# EAGLE library part CC430F5137 (library OSSIdonghee)
TI.com CC430F5137 (MSP430 + CC1101 Transceiver)
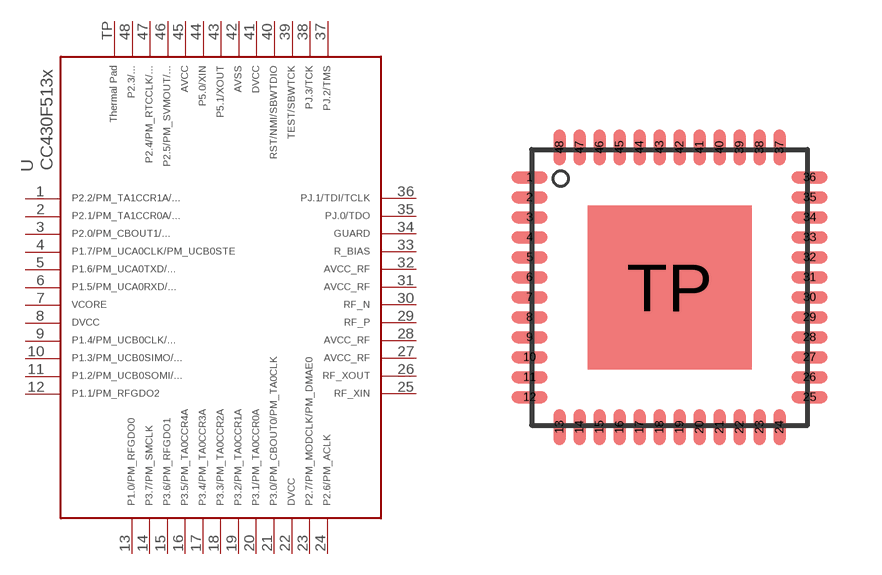
[diagram p0: symbol with the pads of RGZ48; footprint RGZ48]

Designator prefix U

## CC430F5137  [RGZ48]
1  P$1
2  P$2
3  P$3
4  P$4
5  P$5
6  P$6
7  P$7  pwr
8  P$8  pwr
9  P$9
10  P$10
11  P$11
12  P$12
13  P$13
14  P$14
15  P$15
16  P$16
17  P$17
18  P$18
19  P$19
20  P$20
21  P$21
22  P$22  pwr
23  P$23
24  P$24
25  P$25  in
26  P$26  out
27  P$27  pwr
28  P$28
29  P$29
30  P$30
31  P$31  pwr
32  P$32  pwr
33  P$33  pwr
34  P$34  pwr
35  P$35
36  P$36
37  P$37
38  P$38
39  P$39  in
40  P$40
41  P$41  pwr
42  P$42  pwr
43  P$43  in
44  P$44  in
45  P$45  in
46  P$46
47  P$47  in
48  P$48
TP  P$49  pwr

## Footprint RGZ48 (pad centres in mm)
Texax Instrument RGZ48 package esp. for CC430F5137
smd 0.9 x 0.3: 1 -3.5,2.75; 2 -3.5,2.25; 3 -3.5,1.75; 4 -3.5,1.25; 5 -3.5,0.75; 6 -3.5,0.25; 7 -3.5,-0.25; 8 -3.5,-0.75; 9 -3.5,-1.25; 10 -3.5,-1.75; 11 -3.5,-2.25; 12 -3.5,-2.75; 25 3.5,-2.75; 26 3.5,-2.25; 27 3.5,-1.75; 28 3.5,-1.25; 29 3.5,-0.75; 30 3.5,-0.25; 31 3.5,0.25; 32 3.5,0.75; 33 3.5,1.25; 34 3.5,1.75; 35 3.5,2.25; 36 3.5,2.75
smd 0.3 x 0.9: 13 -2.75,-3.5; 14 -2.25,-3.5; 15 -1.75,-3.5; 16 -1.25,-3.5; 17 -0.75,-3.5; 18 -0.25,-3.5; 19 0.25,-3.5; 20 0.75,-3.5; 21 1.25,-3.5; 22 1.75,-3.5; 23 2.25,-3.5; 24 2.75,-3.5; 37 2.75,3.5; 38 2.25,3.5; 39 1.75,3.5; 40 1.25,3.5; 41 0.75,3.5; 42 0.25,3.5; 43 -0.25,3.5; 44 -0.75,3.5; 45 -1.25,3.5; 46 -1.75,3.5; 47 -2.25,3.5; 48 -2.75,3.5
smd 4.1 x 4.1: TP 0,0